# EAGLE library part 37206-62A3-003PL (library tm-econ)
3M™ Mini-Clamp Socket, 372 Series (3-2) 37206-62A3-003PL
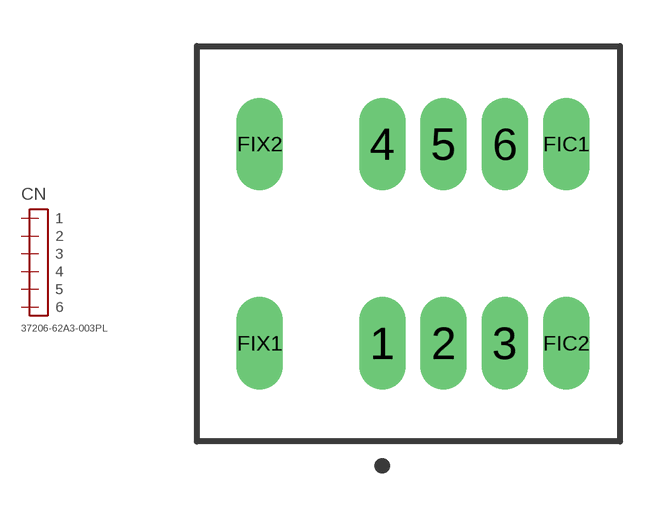
[diagram p0: symbol with the pads of ECON3X2; footprint ECON3X2]

Designator prefix CN

## 37206-62A3-003PL  [ECON3X2]
1  1
2  2
3  3
4  4
5  5
6  6

## Footprint ECON3X2 (pad centres in mm)
drill 1 long: 1 0,-3.25; 2 2,-3.25; 3 4,-3.25; 4 0,3.25; 5 2,3.25; 6 4,3.25; FIC1 6,3.25; FIC2 6,-3.25; FIX1 -4,-3.25; FIX2 -4,3.25